# Altium schematic symbol library picoprint_library.SCHLIB: 132 symbols (part 1 of 2)
Pins are listed as number, name and electrical type; pins without a type are passive.

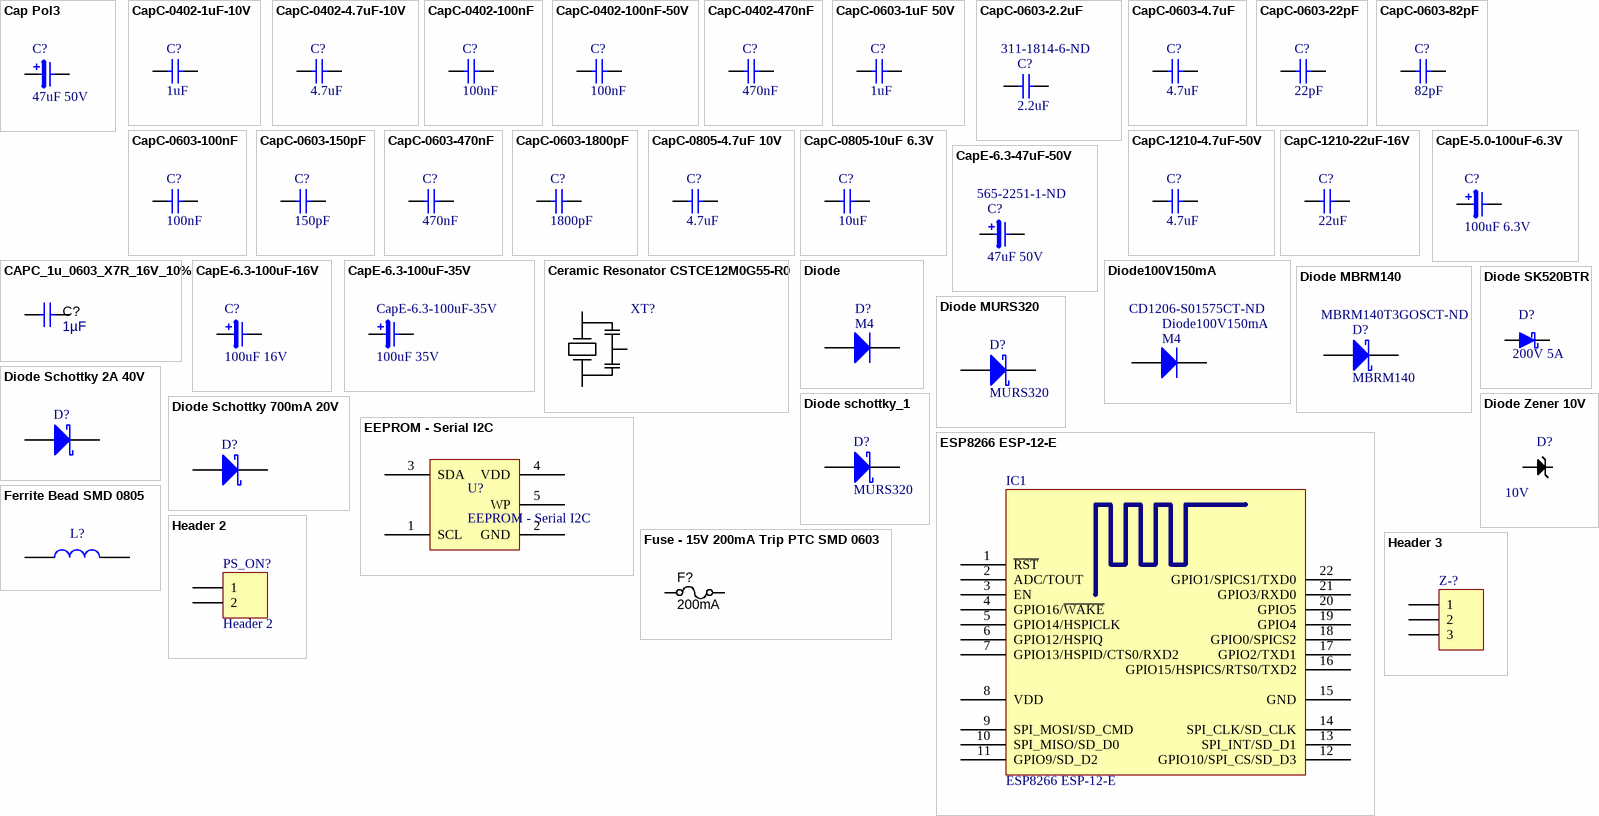
[diagram p0: symbols Cap Pol3 to Header 3]

## Cap Pol3
designator C?  value 47uF 50V  (hidden comment: Cap Pol3)
Polarized Capacitor (Surface Mount); Note: Approved sub OK; Published: 8-Jun-2000; Revision: July-2002: Re-released for DXP Platform.; Publisher: Altium Limited
footprint CC2012-0805 (Chip Capacitor; Body 2.0 x 1.2 mm (LxW typ))
simulation model CAP (Capacitor)
signal-integrity model Cap Pol
footprint CC4532-1812
footprint CC4564-1825
footprint CC5750-2220
footprint CC5664-2225
footprint CAP EL PANASONIC
pins: 1, 2

## CapC-0402-1uF-10V
designator C?  value 1uF  (hidden comment: CapC-0402-1uF-10V)
Capacitor (Semiconductor SIM Model); Voltage: 10V; Note: Approved sub OK; Published: 8-Jun-2000; Revision: July-2002: Re-released for DXP Platform.; Publisher: Altium Limited; Supplier 1: Digi-Key; Supplier Part Number 1: 1276-1448-1-ND
simulation model CAP (Semiconductor Capacitor)
signal-integrity model Cap Semi
footprint CAP 1005-0402 (Chip Capacitor, Body 1.0x0.5mm, EIA 0402, IPC Medium Density)
pins: 1, 2

## CapC-0402-4.7uF-10V
designator C?  value 4.7uF  (hidden comment: CapC-0402-4.7uF-10V)
Capacitor (Semiconductor SIM Model); Voltage: 10V; Note: Approved sub OK; Published: 8-Jun-2000; Revision: July-2002: Re-released for DXP Platform.; Publisher: Altium Limited; Supplier 1: Digi-Key; Supplier Part Number 1: 1276-1482-1-ND
simulation model CAP (Semiconductor Capacitor)
signal-integrity model Cap Semi
footprint CAP 1005-0402 (Chip Capacitor, Body 1.0x0.5mm, EIA 0402, IPC Medium Density)
pins: 1, 2

## CapC-0402-100nF
designator C?  value 100nF  (hidden comment: CapC-0402-100nF)
Capacitor (Semiconductor SIM Model); Note: Approved sub OK; Published: 8-Jun-2000; Revision: July-2002: Re-released for DXP Platform.; Publisher: Altium Limited; Supplier 1: Digi-Key; Supplier Part Number 1: 311-1336-1-ND
simulation model CAP (Semiconductor Capacitor)
signal-integrity model Cap Semi
footprint CAP 1005-0402 (Chip Capacitor, Body 1.0x0.5mm, EIA 0402, IPC Medium Density)
pins: 1, 2

## CapC-0402-100nF-50V
designator C?  value 100nF  (hidden comment: CapC-0402-100nF-50V)
Capacitor (Semiconductor SIM Model); Voltage: 50V; Note: Approved sub OK; Published: 8-Jun-2000; Revision: July-2002: Re-released for DXP Platform.; Publisher: Altium Limited; Supplier 1: Digi-Key; Supplier Part Number 1: 490-10700-1-ND
simulation model CAP (Semiconductor Capacitor)
signal-integrity model Cap Semi
footprint CAP 1005-0402 (Chip Capacitor, Body 1.0x0.5mm, EIA 0402, IPC Medium Density)
pins: 1, 2

## CapC-0402-470nF
designator C?  value 470nF  (hidden comment: CapC-0402-470nF)
Capacitor (Semiconductor SIM Model); Note: Approved sub OK; Published: 8-Jun-2000; Revision: July-2002: Re-released for DXP Platform.; Publisher: Altium Limited; Supplier 1: Digi-Key; Supplier Part Number 1: 1276-1173-1-ND
simulation model CAP (Semiconductor Capacitor)
signal-integrity model Cap Semi
footprint CAP 1005-0402 (Chip Capacitor, Body 1.0x0.5mm, EIA 0402, IPC Medium Density)
pins: 1, 2

## CapC-0603-1uF 50V
designator C?  value 1uF  (hidden comment: CapC-0603-1uF 50V)
Capacitor (Semiconductor SIM Model); Note: Approved sub OK; Published: 8-Jun-2000; Revision: July-2002: Re-released for DXP Platform.; Publisher: Altium Limited; Supplier 1: Digi-Key; Supplier Part Number 1: 1276-1860-1-ND
simulation model CAP (Semiconductor Capacitor)
signal-integrity model Cap Semi
footprint Cap 1608-0603
footprint Cap2012-0805
footprint Cap3216-1206
footprint Cap3225-1210
pins: 1, 2

## CapC-0603-2.2uF
designator C?  value 2.2uF  Supplier Part Number 1: 311-1814-6-ND  (hidden comment: CapC-0603-2.2uF)
Capacitor (Semiconductor SIM Model); Note: Approved sub OK; Published: 8-Jun-2000; Revision: July-2002: Re-released for DXP Platform.; Publisher: Altium Limited; Supplier 1: Digi-Key
simulation model CAP (Semiconductor Capacitor)
signal-integrity model Cap Semi
footprint Cap 1608-0603
footprint Cap2012-0805
footprint Cap3216-1206
footprint Cap3225-1210
pins: 1, 2

## CapC-0603-4.7uF
designator C?  value 4.7uF  (hidden comment: CapC-0603-4.7uF)
Capacitor (Semiconductor SIM Model); Note: Approved sub OK; Published: 8-Jun-2000; Revision: July-2002: Re-released for DXP Platform.; Publisher: Altium Limited; Supplier 1: Digi-Key; Supplier Part Number 1: 311-1521-1-ND
simulation model CAP (Semiconductor Capacitor)
signal-integrity model Cap Semi
footprint Cap 1608-0603
footprint Cap2012-0805
footprint Cap3216-1206
footprint Cap3225-1210
pins: 1, 2

## CapC-0603-22pF
designator C?  value 22pF  (hidden comment: CapC-0603-22pF)
Capacitor (Semiconductor SIM Model); Note: Approved sub OK; Published: 8-Jun-2000; Revision: July-2002: Re-released for DXP Platform.; Publisher: Altium Limited; Supplier 1: Digi-Key; Supplier Part Number 1: 478-6204-1-ND
simulation model CAP (Semiconductor Capacitor)
signal-integrity model Cap Semi
footprint Cap 1608-0603
footprint Cap2012-0805
footprint Cap3216-1206
footprint Cap3225-1210
pins: 1, 2

## CapC-0603-82pF
designator C?  value 82pF  (hidden comment: CapC-0603-82pF)
Capacitor (Semiconductor SIM Model); Note: Approved sub OK; Published: 8-Jun-2000; Revision: July-2002: Re-released for DXP Platform.; Publisher: Altium Limited; Supplier 1: Digi-Key; Supplier Part Number 1: 311-1068-1-ND
simulation model CAP (Semiconductor Capacitor)
signal-integrity model Cap Semi
footprint Cap 1608-0603
footprint Cap2012-0805
footprint Cap3216-1206
footprint Cap3225-1210
pins: 1, 2

## CapC-0603-100nF
designator C?  value 100nF  (hidden comment: CapC-0603-100nF)
Capacitor (Semiconductor SIM Model); Note: Approved sub OK; Published: 8-Jun-2000; Revision: July-2002: Re-released for DXP Platform.; Publisher: Altium Limited; Supplier 1: Digi-Key; Supplier Part Number 1: 311-1344-1-ND
simulation model CAP (Semiconductor Capacitor)
signal-integrity model Cap Semi
footprint Cap 1608-0603
footprint Cap2012-0805
footprint Cap3216-1206
footprint Cap3225-1210
footprint CAP 1005-0402 (Chip Capacitor, Body 1.0x0.5mm, EIA 0402, IPC Medium Density)
pins: 1, 2

## CapC-0603-150pF
designator C?  value 150pF  (hidden comment: CapC-0603-150pF)
Capacitor (Semiconductor SIM Model); Note: Approved sub OK; Published: 8-Jun-2000; Revision: July-2002: Re-released for DXP Platform.; Publisher: Altium Limited; Supplier 1: Digi-Key; Supplier Part Number 1: 311-1071-1-ND
simulation model CAP (Semiconductor Capacitor)
signal-integrity model Cap Semi
footprint Cap 1608-0603
footprint Cap2012-0805
footprint Cap3216-1206
footprint Cap3225-1210
pins: 1, 2

## CapC-0603-470nF
designator C?  value 470nF  (hidden comment: CapC-0603-470nF)
Capacitor (Semiconductor SIM Model); Note: Approved sub OK; Published: 8-Jun-2000; Revision: July-2002: Re-released for DXP Platform.; Publisher: Altium Limited; Supplier 1: Digi-Key; Supplier Part Number 1: 311-1798-1-ND
simulation model CAP (Semiconductor Capacitor)
signal-integrity model Cap Semi
footprint Cap 1608-0603
footprint Cap2012-0805
footprint Cap3216-1206
footprint Cap3225-1210
pins: 1, 2

## CapC-0603-1800pF
designator C?  value 1800pF  (hidden comment: CapC-0603-1800pF)
Capacitor (Semiconductor SIM Model); Note: Approved sub OK; Published: 8-Jun-2000; Revision: July-2002: Re-released for DXP Platform.; Publisher: Altium Limited; Supplier 1: Digi-Key; Supplier Part Number 1: 311-1769-1-ND
simulation model CAP (Semiconductor Capacitor)
signal-integrity model Cap Semi
footprint Cap 1608-0603
footprint Cap2012-0805
footprint Cap3216-1206
footprint Cap3225-1210
pins: 1, 2

## CapC-0805-4.7uF 10V
designator C?  value 4.7uF  (hidden comment: CapC-0805-4.7uF 10V)
Capacitor (Semiconductor SIM Model); Note: Approved sub OK; Published: 8-Jun-2000; Revision: July-2002: Re-released for DXP Platform.; Publisher: Altium Limited; Supplier 1: Digi-Key; Supplier Part Number 1: 1276-1244-1-ND
simulation model CAP (Semiconductor Capacitor)
signal-integrity model Cap Semi
footprint CAPC2012X135N (Chip Capacitor, Body 2.0x1.2mm, EIA 0805, IPC Medium Density)
pins: 1, 2

## CapC-0805-10uF 6.3V
designator C?  value 10uF  (hidden comment: CapC-0805-10uF 6.3V)
Capacitor (Semiconductor SIM Model); Note: Approved sub OK; Published: 8-Jun-2000; Revision: July-2002: Re-released for DXP Platform.; Publisher: Altium Limited; Supplier 1: Digi-Key; Supplier Part Number 1: 1276-6457-1-ND
simulation model CAP (Semiconductor Capacitor)
signal-integrity model Cap Semi
footprint CAPC2012X135N (Chip Capacitor, Body 2.0x1.2mm, EIA 0805, IPC Medium Density)
pins: 1, 2

## CapC-1210-4.7uF-50V
designator C?  value 4.7uF  (hidden comment: CapC-1210-4.7uF-50V)
Capacitor (Semiconductor SIM Model); Note: Approved sub OK; Published: 8-Jun-2000; Revision: July-2002: Re-released for DXP Platform.; Publisher: Altium Limited; Supplier 1: Digi-Key; Supplier Part Number 1: 490-1864-1-ND
footprint CAP 3225-1210 (Chip Capacitor, Body 3.2x2.5mm, EIA 1210, IPC Medium Density)
pins: 1, 2

## CapC-1210-22uF-16V
designator C?  value 22uF  (hidden comment: CapC-1210-22uF-16V)
Capacitor (Semiconductor SIM Model); Note: Approved sub OK; Published: 8-Jun-2000; Revision: July-2002: Re-released for DXP Platform.; Publisher: Altium Limited; Supplier 1: Digi-Key; Supplier Part Number 1: 490-5956-1-ND
footprint CAP 3225-1210 (Chip Capacitor, Body 3.2x2.5mm, EIA 1210, IPC Medium Density)
pins: 1, 2

## CAPC_1u_0603_X7R_16V_10%
designator C?, comment value 1µF  (hidden comment: approved sub OK)
Capacitor SMD Cer 1uF 10% 16V X7R 0603; Manufacturer 1: TDK Corporation; Manufacturer Part Number 1: C1608X7R1C105K; Ratings: 16V; X7R; Material: ceramic; SCDType: spec; Package / Case: 0603 (1608 metric); Tolerance: ±10%; Supplier 1: Digi-Key; Supplier Part Number 1: 445-1604-1-ND; ComponentLink1URL: http://product.tdk.com/capacitor/mlcc/en/documents/mlcc_commercial_general_en.pdf; ComponentLink1Description: http://product.tdk.com/capacitor/mlcc/en/documents/mlcc_commercial_general_en.pdf; Note: Approved sub OK
footprint CAPC1608X90N (Chip Capacitor, Body 1.6x0.8mm, 0603, IPC Medium Density)
footprint Cap 1608-0603
pins: 1, 2

## CapE-5.0-100uF-6.3V
designator C?  value 100uF 6.3V  (hidden comment: CapE-5.0-100uF-6.3V)
Polarized Capacitor (Surface Mount); Note: Approved sub OK; Published: 8-Jun-2000; Revision: July-2002: Re-released for DXP Platform.; Publisher: Altium Limited; Supplier 1: Digi-Key; Supplier Part Number 1: 565-2057-1-ND
footprint CAP EL 5mm
pins: 1, 2

## CapE-6.3-47uF-50V
designator C?  value 47uF 50V  Supplier Part Number 1: 565-2251-1-ND  (hidden comment: CapE-6.3-47uF-50V)
Polarized Capacitor (Surface Mount); Note: Approved sub OK; Published: 8-Jun-2000; Revision: July-2002: Re-released for DXP Platform.; Publisher: Altium Limited; Supplier 1: Digi-Key
footprint CC2012-0805 (Chip Capacitor; Body 2.0 x 1.2 mm (LxW typ))
simulation model CAP (Capacitor)
signal-integrity model Cap Pol
footprint CC4532-1812
footprint CC4564-1825
footprint CC5750-2220
footprint CC5664-2225
footprint CAP EL PANASONIC
pins: 1, 2

## CapE-6.3-100uF-16V
designator C?  value 100uF 16V  (hidden comment: CapE-6.3-100uF-16V)
Polarized Capacitor (Surface Mount); Note: Approved sub OK; Published: 8-Jun-2000; Revision: July-2002: Re-released for DXP Platform.; Publisher: Altium Limited; Supplier 1: Digi-Key; Supplier Part Number 1: 565-2204-1-ND
footprint CC2012-0805 (Chip Capacitor; Body 2.0 x 1.2 mm (LxW typ))
simulation model CAP (Capacitor)
signal-integrity model Cap Pol
footprint CC4532-1812
footprint CC4564-1825
footprint CC5750-2220
footprint CC5664-2225
footprint CAP EL PANASONIC
pins: 1, 2

## CapE-6.3-100uF-35V
designator CapE-6.3-100uF-35V  value 100uF 35V  (hidden comment: CapE-6.3-100uF-35V)
Polarized Capacitor (Surface Mount); Note: Approved sub OK; Published: 8-Jun-2000; Revision: July-2002: Re-released for DXP Platform.; Publisher: Altium Limited; Supplier 1: Digi-Key; Supplier Part Number 1: PCE5016CT-ND
footprint CC2012-0805 (Chip Capacitor; Body 2.0 x 1.2 mm (LxW typ))
simulation model CAP (Capacitor)
signal-integrity model Cap Pol
footprint CC4532-1812
footprint CC4564-1825
footprint CC5750-2220
footprint CC5664-2225
footprint CAP EL PANASONIC
pins: 1, 2

## Ceramic Resonator CSTCE12M0G55-R0
designator XT?  (value not drawn)
Ceramic Resonator; Supplier 1: Digi-Key; Supplier Part Number 1: 490-1197-1-ND
footprint CERALOCK CSTCE_G
pins: 1 IN, 2 GND, 3 OUT

## Diode
designator D?, comment M4
Default Diode; Code - JEDEC: DO-214-AB; Published: 8-Jun-2000; Revision: July-2002: Re-released for DXP Platform.; Publisher: Altium Limited; Supplier 1: Digi-Key; Supplier Part Number 1: S1GFSCT-ND
footprint DSO-C2/X3.3 (DO-214-AB/SMC; 2 C-Bend Leads; Body 7.9 x 5.9 mm, inc. leads (LxW))
simulation model DIODE (Diode)
signal-integrity model Diode
footprint DIODA10M
footprint 1N4148 SMD (MELF Diode, 2-Leads, Body 3.5x1.7mm, IPC Medium Density)
footprint Diode SMB
footprint 1n4007 SMD
pins: 1 A, 2 K

## Diode100V150mA
designator Diode100V150mA, comment M4  Supplier Part Number 1: CD1206-S01575CT-ND
Default Diode; Code - JEDEC: DO-214-AB; Published: 8-Jun-2000; Revision: July-2002: Re-released for DXP Platform.; Publisher: Altium Limited; Supplier 1: Digi-Key
footprint DSO-C2/X3.3 (DO-214-AB/SMC; 2 C-Bend Leads; Body 7.9 x 5.9 mm, inc. leads (LxW))
simulation model DIODE (Diode)
signal-integrity model Diode
footprint DIODA10M
footprint 1N4148 SMD (MELF Diode, 2-Leads, Body 3.5x1.7mm, IPC Medium Density)
footprint Diode SMB
footprint 1n4007 SMD
pins: 1 A, 2 K

## Diode MBRM140
designator D?  value MBRM140  Supplier Part Number 1: MBRM140T3GOSCT-ND  (hidden comment: Diode MBRM140)
Default Diode; Code - JEDEC: DO-214-AB; Published: 8-Jun-2000; Revision: July-2002: Re-released for DXP Platform.; Publisher: Altium Limited; Supplier 1: Digi-Key
simulation model DIODE (Diode)
signal-integrity model Diode
footprint DIODA10M
footprint US1J
footprint MBRM140
pins: 1 A, 2 K

## Diode MURS320
designator D?  value MURS320  (hidden comment: Diode MURS320)
Default Diode; Code - JEDEC: DO-214-AB; Published: 8-Jun-2000; Revision: July-2002: Re-released for DXP Platform.; Publisher: Altium Limited; Supplier 1: Digi-Key; Supplier Part Number 1: MURS320-13FDICT-ND
simulation model DIODE (Diode)
signal-integrity model Diode
footprint DIODA10M
footprint US1J
footprint MBRM140
pins: 1 A, 2 K

## Diode Schottky 2A 40V
designator D?  (value not drawn)
Default Diode; Code - JEDEC: DO-214-AB; Note: Approved sub OK; Published: 8-Jun-2000; Revision: July-2002: Re-released for DXP Platform.; Publisher: Altium Limited; Supplier 1: Digi-Key; Supplier Part Number 1: DB2W40200LCT-ND
simulation model DIODE (Diode)
signal-integrity model Diode
footprint DIOM2616X08N (Molded Diode, 2-Leads, Body 2.60x1.60mm, IPC Medium Density)
pins: A, K

## Diode Schottky 700mA 20V
designator D?  (value not drawn)
Default Diode; Note: Approved sub OK; Revision: July-2002: Re-released for DXP Platform.; Supplier 1: Digi-Key; Supplier Part Number 1: DB3J208K0LCT-ND
simulation model DIODE (Diode)
signal-integrity model Diode
footprint SC-85 (SMini3-F2-B)
pins: 1 A, 3 K

## Diode schottky_1
designator D?, comment MURS320
Default Diode; Code - JEDEC: DO-214-AB; Published: 8-Jun-2000; Revision: July-2002: Re-released for DXP Platform.; Publisher: Altium Limited
simulation model DIODE (Diode)
signal-integrity model Diode
footprint DIODA10M
footprint MURS320 (Molded Diode, 2-Leads, Body 6.8x5.8mm, IPC Medium Density)
footprint MBRM140
pins: 1 A, 2 K

## Diode SK520BTR
designator D?  value 200V 5A  (hidden comment: Diode SK520BTR)
Default Diode; Code - JEDEC: DO-214-AB; Published: 8-Jun-2000; Revision: July-2002: Re-released for DXP Platform.; Publisher: Altium Limited; Supplier 1: Digi-Key; Supplier Part Number 1: 1655-1602-1-ND
footprint DO-214AA (JEDEC DO214 variation AA. SMB)
pins: A, K

## Diode Zener 10V
designator D?  Voltage: 10V  (hidden comment: Diode Zener 10V)
Default Diode; Code - JEDEC: DO-214-AB; Note: Approved sub OK; Published: 8-Jun-2000; Revision: July-2002: Re-released for DXP Platform.; Publisher: Altium Limited; Supplier 1: Digi-Key; Supplier Part Number 1: DZ2S100M0LCT-ND
simulation model DIODE (Diode)
signal-integrity model Diode
footprint SOD523 (SOD-523; 2 Leads; Body 1.2 x 0.8 mm, (LxW))
pins: A, K

## EEPROM - Serial I2C
designator U?
Supplier 1: Digi-Key; Supplier Part Number 1: 24LC16BT-I/OTCT-ND
footprint SOT23-5
pins: 1 SCL, 2 GND, 3 SDA, 4 VDD, 5 WP

## ESP8266 ESP-12-E
designator IC1
footprint ESP8266 ESP-12-E-SMD (ESP8266 ESP-12-E)
pins: 1 ~{RST} "Reset", 2 ADC/TOUT "ADC Input Or TOUT Output", 3 EN "Chip enable", 4 GPIO16/~{WAKE} "GPIO16 or Deep-Sleep Wakeup", 5 GPIO14/HSPICLK "GPIO14 or SPI CLK", 6 GPIO12/HSPIQ "GPIO12 or SPIQ", 7 GPIO13/HSPID/CTS0/RXD2 "GPIO13 or SPID", 8 VDD "Power supply", 9 SPI_MOSI/SD_CMD "GPIO14 or SPI CLK", 10 SPI_MISO/SD_D0 "GPIO12 or SPIQ", 11 GPIO9/SD_D2 "GPIO13 or SPID", 12 GPIO10/SPI_CS/SD_D3 "GPIO15 or SPICS", 13 SPI_INT/SD_D1 "GPIO2 or TX", 14 SPI_CLK/SD_CLK "GPIO0 or SPICS2", 15 GND "Power ground", 16 GPIO15/HSPICS/RTS0/TXD2 "GPIO15 or SPICS", 17 GPIO2/TXD1 "GPIO2 or TX", 18 GPIO0/SPICS2 "GPIO0 or SPICS2", 19 GPIO4 "GPIO5", 20 GPIO5 "GPIO4", 21 GPIO3/RXD0 "GPIO3 or UART RXD", 22 GPIO1/SPICS1/TXD0 "GPIO1 or UART TXD"

## Ferrite Bead SMD 0805
designator L?  (value not drawn)
MagneticCore Inductor with Winding Polarity Marking; Value: WE-CBF_0805 (WE-CBF); Note: Approved sub OK; Published: 24-Mar-1999; Revision: July-2002: Re-released for DXP Platform.; Publisher: Altium Limited; Supplier 1: Digi-Key; Supplier Part Number 1: 490-1054-1-ND
footprint 0603 Chip Ferrite Bead (Chip Ferrite Bead, 2-Leads, Body 1.6x0.8mm, IPC Medium Density)
signal-integrity model Inductor Iron Dot
footprint res 2518-1007 (Chip Inductor, 2-Leads, Body 2.5x1.8mm, IPC Medium Density)
footprint Res 2012-0805
pins: 1, 2

## Fuse - 15V 200mA Trip PTC SMD 0603
designator F?, comment value 200mA  (hidden comment: PTC Resettable Fuse)
Fuse - 15V 200mA Trip PTC SMD 0603; Manufacturer 1: Holly Fuse; Manufacturer Part Number 1: 06T-0160L; Ratings: 160mA; 63VDC; slow-blow; SCDType: spec; Package / Case: 0603 (1608 metric); Supplier 1: Digi-Key; Supplier Part Number 1: 507-1821-1-ND
footprint PTC Fuse1608-0603
pins: 1, 2

## Header 2
designator PS_ON?
Header, 2-Pin; Note: Approved sub OK; LatestRevisionDate: 17-Jul-2002; LatestRevisionNote: Re-released for DXP Platform.; Publisher: Altium Limited; Supplier 1: Digi-Key; Supplier Part Number 1: 3M9447-ND
signal-integrity model Connector
footprint HDR1X2-HEADER
footprint HEADER-1x2-50mil
pins: 1, 2

## Header 3
designator Z-?  (value not drawn)
Header, 3-Pin; Note: Approved sub OK; LatestRevisionDate: 17-Jul-2002; LatestRevisionNote: Re-released for DXP Platform.; Publisher: Altium Limited; Supplier 1: Digi-Key; Supplier Part Number 1: 3M9448-ND
signal-integrity model Connector
footprint HDR1X3-HEADER
pins: 1, 2, 3

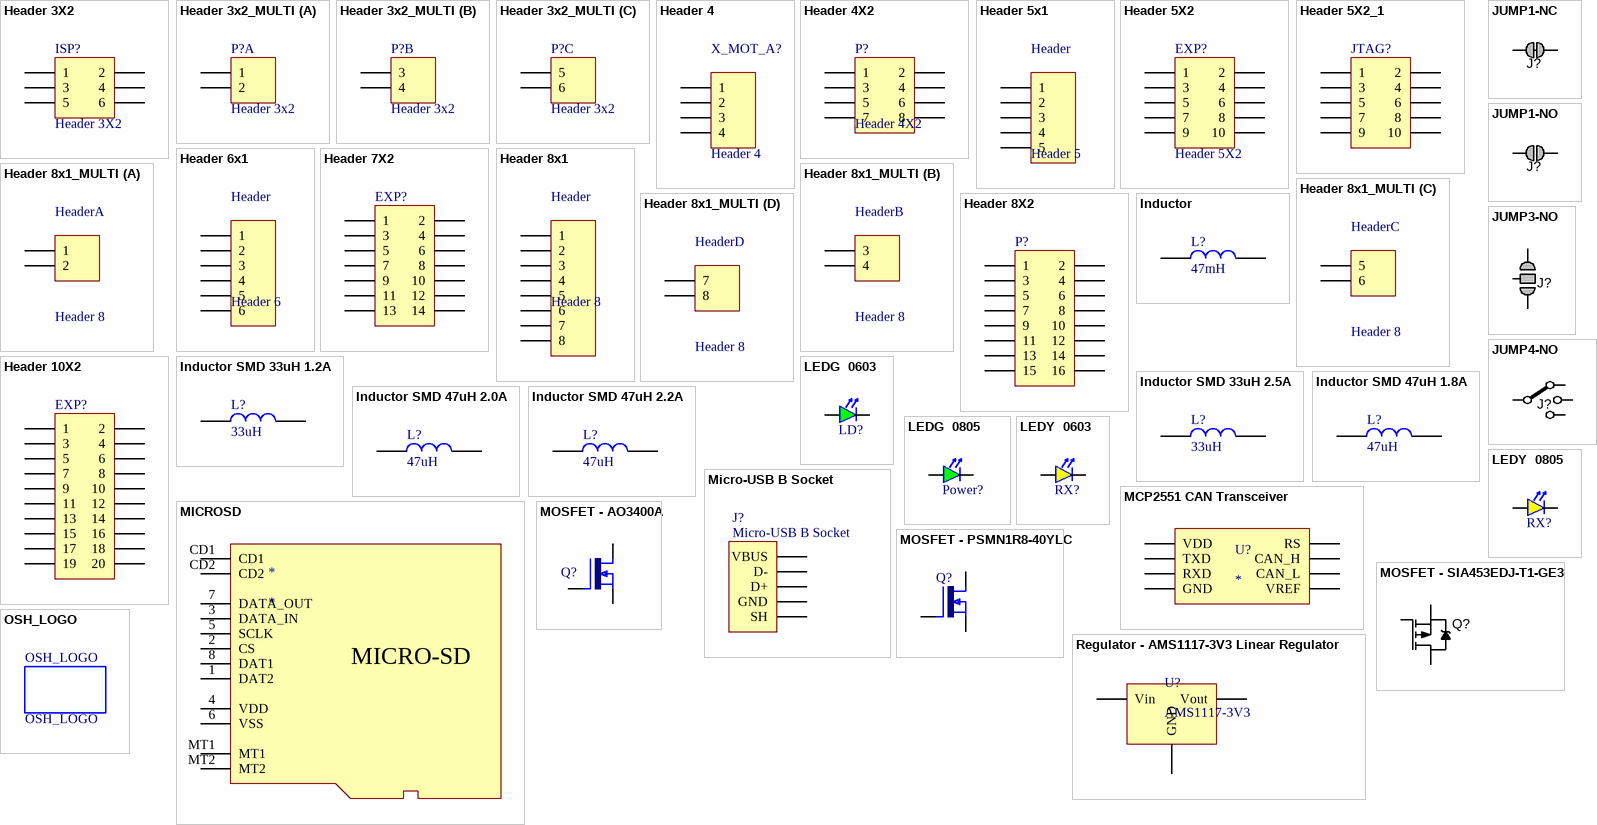
[diagram p1: symbols Header 3X2 to Regulator - AMS1117-3V3 Linear Regulator]

## Header 3X2
designator ISP?
Header, 3-Pin, Dual row; Note: Approved sub OK; LatestRevisionDate: 17-Jul-2002; LatestRevisionNote: Re-released for DXP Platform.; Publisher: Altium Limited; Supplier 1: Digi-Key; Supplier Part Number 1: 3M9459-ND
signal-integrity model Connector
footprint HDR2X3-Header
pins: 1, 2, 3, 4, 5, 6

## Header 3x2_MULTI
designator P?, comment Header 3x2
Header, 6-Pin; Note: Approved sub OK; LatestRevisionDate: 17-Jul-2002; LatestRevisionNote: Re-released for DXP Platform.; Publisher: Altium Limited; Supplier 1: Digi-Key; Supplier Part Number 1: 3M9459-ND
signal-integrity model Connector
footprint HDR2X3-Header
part A pins: 1, 2
part B pins: 3, 4
part C pins: 5, 6

## Header 4
designator X_MOT_A?
Header, 4-Pin; Note: Approved sub OK; LatestRevisionDate: 17-Jul-2002; LatestRevisionNote: Re-released for DXP Platform.; Publisher: Altium Limited; Supplier 1: Digi-Key; Supplier Part Number 1: 3M9449-ND
signal-integrity model Connector
footprint HDR1X4-HEADER
pins: 1, 2, 3, 4

## Header 4X2
designator P?
Header, 4-Pin, Dual row; Note: Approved sub OK; LatestRevisionDate: 17-Jul-2002; LatestRevisionNote: Re-released for DXP Platform.; Publisher: Altium Limited; Supplier 1: Digi-Key; Supplier Part Number 1: 961208-6404-AR-ND
signal-integrity model Connector
footprint HDR2X4-HEADER
pins: 1, 2, 3, 4, 5, 6, 7, 8

## Header 5x1
designator Header, comment Header 5
Header, 5-Pin; Note: Approved sub OK; LatestRevisionDate: 17-Jul-2002; LatestRevisionNote: Re-released for DXP Platform.; Publisher: Altium Limited; Supplier 1: Digi-Key; Supplier Part Number 1: 3M9449-ND
signal-integrity model Connector
footprint HDR1X5-HEADER
pins: 1, 2, 3, 4, 5

## Header 5X2
designator EXP?
Header, 5-Pin, Dual row; Note: Approved sub OK; LatestRevisionDate: 17-Jul-2002; LatestRevisionNote: Re-released for DXP Platform.; Publisher: Altium Limited; Supplier 1: Digi-Key; Supplier Part Number 1: 3M9460-ND
footprint HDR2X5 (Connector; Header; 5x2 Position)
signal-integrity model Connector
footprint HDR2X5_exp (Connector; Header; 5x2 Position)
footprint HDR2X5_exp Iner only\ (Connector; Header; 5x2 Position)
pins: 1, 2, 3, 4, 5, 6, 7, 8, 9, 10

## Header 5X2_1
designator JTAG?  (value not drawn)
Header, 5-Pin, Dual row; Note: Approved sub OK; LatestRevisionDate: 17-Jul-2002; LatestRevisionNote: Re-released for DXP Platform.; Publisher: Altium Limited; Supplier 1: Digi-Key; Supplier Part Number 1: 3M9460-ND
footprint HDR2X5 (Connector; Header; 5x2 Position)
signal-integrity model Connector
pins: 1, 2, 3, 4, 5, 6, 7, 8, 9, 10

## Header 6x1
designator Header, comment Header 6
Header, 6-Pin; Note: Approved sub OK; LatestRevisionDate: 17-Jul-2002; LatestRevisionNote: Re-released for DXP Platform.; Publisher: Altium Limited; Supplier 1: Digi-Key; Supplier Part Number 1: 3M9449-ND
signal-integrity model Connector
footprint HDR1X6-HEADER
pins: 1, 2, 3, 4, 5, 6

## Header 7X2
designator EXP?  (value not drawn)
Header, 7-Pin, Dual row; Note: Approved sub OK; LatestRevisionDate: 17-Jul-2002; LatestRevisionNote: Re-released for DXP Platform.; Publisher: Altium Limited; Supplier 1: Digi-Key; Supplier Part Number 1: 3M15450-ND
footprint HDR2X7 (Connector; Header; 7x2 Position)
signal-integrity model Connector
pins: 1, 2, 3, 4, 5, 6, 7, 8, 9, 10, 11, 12, 13, 14

## Header 8x1
designator Header, comment Header 8
Header, 8-Pin; Note: Approved sub OK; LatestRevisionDate: 17-Jul-2002; LatestRevisionNote: Re-released for DXP Platform.; Publisher: Altium Limited; Supplier 1: Digi-Key; Supplier Part Number 1: 3M9449-ND
signal-integrity model Connector
footprint HDR1X8-HEADER
pins: 1, 2, 3, 4, 5, 6, 7, 8

## Header 8x1_MULTI
designator Header, comment Header 8
Header, 8-Pin; Note: Approved sub OK; LatestRevisionDate: 17-Jul-2002; LatestRevisionNote: Re-released for DXP Platform.; Publisher: Altium Limited; Supplier 1: Digi-Key; Supplier Part Number 1: 3M9449-ND
signal-integrity model Connector
footprint HDR1X8-HEADER
part A pins: 1, 2
part B pins: 3, 4
part C pins: 5, 6
part D pins: 7, 8

## Header 8X2
designator P?  (value not drawn)
Header, 10-Pin, Dual row; Note: Approved sub OK; LatestRevisionDate: 17-Jul-2002; LatestRevisionNote: Re-released for DXP Platform.; Publisher: Altium Limited
signal-integrity model Connector
footprint HDR2X8-HEADER
pins: 1, 2, 3, 4, 5, 6, 7, 8, 9, 10, 11, 12, 13, 14, 15, 16

## Header 10X2
designator EXP?  (value not drawn)
Header, 10-Pin, Dual row; Note: Approved sub OK; LatestRevisionDate: 17-Jul-2002; LatestRevisionNote: Re-released for DXP Platform.; Publisher: Altium Limited; Supplier 1: Digi-Key; Supplier Part Number 1: 3M155864-ND
signal-integrity model Connector
footprint HDR2X10-HEADER
pins: 1, 2, 3, 4, 5, 6, 7, 8, 9, 10, 11, 12, 13, 14, 15, 16, 17, 18, 19, 20

## Inductor
designator L?  value 47mH  (hidden comment: Inductor)
MagneticCore Inductor with Winding Polarity Marking; Published: 24-Mar-1999; Revision: July-2002: Re-released for DXP Platform.; Publisher: Altium Limited
footprint 0603 Chip Ferrite Bead (Chip Ferrite Bead, 2-Leads, Body 1.6x0.8mm, IPC Medium Density)
signal-integrity model Inductor Iron Dot
footprint DO3316P (SMT Power Inductors)
footprint inductor_mss6122d
pins: 1, 2

## Inductor SMD 33uH 1.2A
designator L?  value 33uH  (hidden comment: Inductor SMD 33uH 1.2A)
MagneticCore Inductor with Winding Polarity Marking; Published: 24-Mar-1999; Revision: July-2002: Re-released for DXP Platform.; Publisher: Altium Limited; Supplier 1: Farnell; Supplier Part Number 1: 2288635
footprint 0603 Chip Ferrite Bead (Chip Ferrite Bead, 2-Leads, Body 1.6x0.8mm, IPC Medium Density)
signal-integrity model Inductor Iron Dot
footprint res 2518-1007 (Chip Inductor, 2-Leads, Body 2.5x1.8mm, IPC Medium Density)
footprint inductor_mss6122d
footprint DO3316P
pins: 1, 2

## Inductor SMD 33uH 2.5A
designator L?  value 33uH  (hidden comment: Inductor SMD 33uH 2.5A)
MagneticCore Inductor with Winding Polarity Marking; Published: 24-Mar-1999; Revision: July-2002: Re-released for DXP Platform.; Publisher: Altium Limited; Supplier 1: Digi-Key; Supplier Part Number 1: SRN6045TA-330MCT-ND
footprint SRN6045TA SMD Inductor
pins: 1, 2

## Inductor SMD 47uH 1.8A
designator L?  value 47uH  (hidden comment: Inductor SMD 47uH 1.8A)
MagneticCore Inductor with Winding Polarity Marking; Published: 24-Mar-1999; Revision: July-2002: Re-released for DXP Platform.; Publisher: Altium Limited; Supplier 1: Farnell; Supplier Part Number 1: 2287252
footprint 0603 Chip Ferrite Bead (Chip Ferrite Bead, 2-Leads, Body 1.6x0.8mm, IPC Medium Density)
signal-integrity model Inductor Iron Dot
footprint res 2518-1007 (Chip Inductor, 2-Leads, Body 2.5x1.8mm, IPC Medium Density)
footprint inductor_mss6122d
footprint DO3316P
pins: 1, 2

## Inductor SMD 47uH 2.0A
designator L?  value 47uH  (hidden comment: Inductor SMD 47uH 2.0A)
MagneticCore Inductor with Winding Polarity Marking; Published: 24-Mar-1999; Revision: July-2002: Re-released for DXP Platform.; Publisher: Altium Limited; Supplier 1: Digi-Key; Supplier Part Number 1: SRN6045TA-470MCT-ND
footprint SRN6045TA SMD Inductor
pins: 1, 2

## Inductor SMD 47uH 2.2A
designator L?  value 47uH  (hidden comment: Inductor SMD 47uH 2.2A)
MagneticCore Inductor with Winding Polarity Marking; Published: 24-Mar-1999; Revision: July-2002: Re-released for DXP Platform.; Publisher: Altium Limited; Supplier 1: Digi-Key; Supplier Part Number 1: SRN8040TA-470MCT-ND
footprint SRN8040TA SMD Inductor
pins: 1, 2

## JUMP1-NC
designator J?, comment Jumper  (value not drawn)  (no BOM)
SMD jumper
footprint JUMPER-2-NC_BY_PASTE
footprint JUMPER-2-NC_BY_TRACE
pins: 1, 2

## JUMP1-NO
designator J?, comment Jumper  (value not drawn)  (no BOM)
SMD jumper
footprint JUMPER-2-NO
pins: 1, 2

## JUMP3-NO
designator J?, comment Jumper  (value not drawn)  (no BOM)
SMD jumper
footprint JUMPER-3-NO
footprint JUMPER-3-NO-BIG
pins: 1, 2, 3

## JUMP4-NO
designator J?, comment Jumper  (value not drawn)  (no BOM)
SMD jumper
footprint JUMPER-4-NO
pins: 1, 2, 3, 4

## LEDG  0603
designator LD?, comment GREEN  (value not drawn)
Hyper-Bright LED; Note: Approved sub OK; Supplier 1: Digi-Key; Supplier Part Number 1: 160-1435-2-ND
footprint LED 0805
footprint LED 1608-0603
pins: 1 A, 2 K

## LEDG  0805
designator Power?, comment GREEN  (value not drawn)
Hyper-Bright Low Current LED OSRAM; Note: Approved sub OK; Supplier 1: Digi-Key; Supplier Part Number 1: 475-1410-1-ND
footprint LED 0805
pins: 1 A, 2 K

## LEDY  0603
designator RX?, comment YELLOW  (value not drawn)
Hyper-Bright LED; Note: Approved sub OK; Supplier 1: Digi-Key; Supplier Part Number 1: 160-1437-1-ND
footprint LED 1608-0603
pins: 1 A, 2 K

## LEDY  0805
designator RX?, comment YELLOW  (value not drawn)
Hyper-Bright Low Current LED OSRAM; Note: Approved sub OK; Supplier 1: Digi-Key; Supplier Part Number 1: 475-2560-1-ND
footprint LED 0805
pins: 1 A, 2 K

## MCP2551 CAN Transceiver
designator U?
Supplier 1: Digi-Key; Supplier Part Number 1: MCP2551-I/SN-ND
footprint SOIC127P600X175-8M (SOIC, 8-Leads, Body 4.90x3.90mm, Pitch 1.27mm, IPC Low Density)
pins: 1 TXD, 2 GND, 3 VDD, 4 RXD, 5 VREF, 6 CAN_L, 7 CAN_H, 8 RS

## Micro-USB B Socket
designator J?
Note: Approved sub OK; Supplier 1: Digi-Key; Supplier Part Number 1: WM1399CT-ND
footprint Micro-USB B Molex 105017-0001
pins: D+, D-, GND, SHIELD SH, VBUS

## MICROSD
designator *
MicroSD Card Socket; Note: Approved sub OK; Supplier 1: Digi-Key; Supplier Part Number 1: 101-00660-68-6-1-ND
footprint MICRO-SD
pins: 1 DAT2, 2 CS, 3 DATA_IN, 4 VDD, 5 SCLK, 6 VSS, 7 DATA_OUT, 8 DAT1, CD1, CD2, MT1, MT2
text: MICRO-SD

## MOSFET - AO3400A
designator Q?  (value not drawn)
N-CH MOSFET 30V 5.7A SOT23; Supplier 1: Digi-Key; Supplier Part Number 1: 785-1000-1-ND
footprint SOT23-3 New (SOT23, 3 pin)
pins: 1 G, 2 S, 3 D

## MOSFET - PSMN1R8-40YLC
designator Q?, comment PSMN1R8-40YLC  (value not drawn)
N-CH MOSFET 40V 100A LFPAK; Supplier 1: Digi-Key; Supplier Part Number 1: 568-10156-1-ND
footprint TO220BV (Molded Package)
footprint LFPACK
pins: 1 G, 2 D, 3 S

## MOSFET - SIA453EDJ-T1-GE3
designator Q?, comment SIA453EDJ-T1-GE3  (value not drawn)
MOSFET SMD P-CH 30V 24A PowerPAK SC-70-6; Manufacturer 1: Fairchild Semiconductor; Manufacturer Part Number 1: BSS84; FET Type: MOSFET P-Channel, Metal Oxide; FET Feature: Logic Level Gate; Drain to Source Voltage (Vdss): 50V; Current - Continuous Drain (Id) @ 25° C: 130mA; Gate Charge (Qg) @ Vgs: 1.3nC @ 5V; Input Capacitance (Ciss) @ Vds: 73pF @ 25V; ComponentLink1URL: http://www.fairchildsemi.com/ds/BS/BSS84.pdf; ComponentLink1Description: http://www.fairchildsemi.com/ds/BS/BSS84.pdf; Supplier 1: Digi-Key; Supplier Part Number 1: SIA453EDJ-T1-GE3CT-ND
footprint PowerPAK SC-70
pins: 1 D, 3 G, 4 S

## OSH_LOGO
designator OSH_LOGO  (no BOM)
footprint OS LOGO TOP

## Regulator - AMS1117-3V3 Linear Regulator
designator U?, comment AMS1117-3V3
Supplier 1: Digi-Key; Supplier Part Number 1: AZ1117EH-3.3TRG1DICT-ND
footprint SOT229P700X180-4N (SOT223, 4-Leads, Body 6.50x7.00mm (avg), Pitch 2.29mm, IPC Medium Density)
pins: GND, Vin, Vout

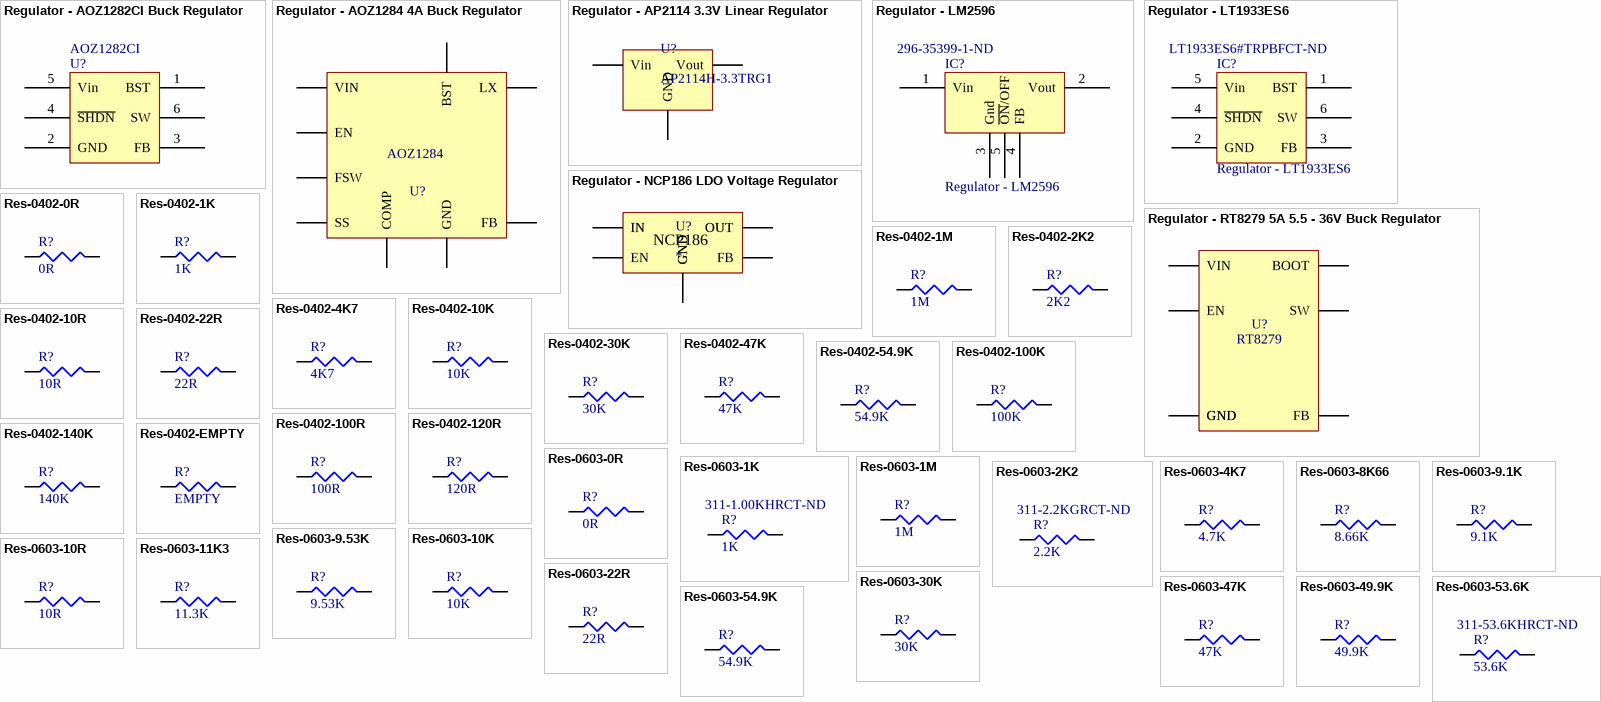
[diagram p2: symbols Regulator - AOZ1282CI Buck Regulator to Res-0603-54.9K]

## Regulator - AOZ1282CI Buck Regulator
designator U?, comment AOZ1282CI
Buck Regulator; Supplier 1: Digi-Key; Supplier Part Number 1: 785-1613-1-ND
footprint SOT23-6N
pins: 1 BST, 2 GND, 3 FB, 4 ~{SHDN}, 5 Vin, 6 SW

## Regulator - AOZ1284 4A Buck Regulator
designator U?, comment AOZ1284  (value not drawn)
Supplier 1: Digi-Key; Supplier Part Number 1: 785-1689-1-ND
pins: 1 LX, 2 BST, 3 GND, 4 FSW, 5 COMP, 6 FB, 7 SS, 8 EN, 9 VIN

## Regulator - AP2114 3.3V Linear Regulator
designator U?, comment AP2114H-3.3TRG1
3.3V LDO Regulator; Supplier 1: Digi-Key; Supplier Part Number 1: AP2114H-3.3TRG1DICT-ND
footprint SOT229P700X180-4N (SOT223, 4-Leads, Body 6.50x7.00mm (avg), Pitch 2.29mm, IPC Medium Density)
pins: GND, Vin, Vout

## Regulator - LM2596
designator IC?  Supplier Part Number 1: 296-35399-1-ND
3.0 A, Step-Down Switching  Regulator; Supplier 1: Digi-Key
footprint TO-263 (D2-PAK, 6-Pads, Body 10.4x8.9mm (max), IPC Medium Density)
pins: 1 Vin, 2 Vout, 3 Gnd, 4 FB, 5 ~{ON}/OFF, 6 HS hidden to GND

## Regulator - LT1933ES6
designator IC?  Supplier Part Number 1: LT1933ES6#TRPBFCT-ND
600mA, 500kHz Step-Down  Switching Regulator in  SOT-23; Supplier 1: Digi-Key
footprint SOT23-6N (SOT23, 6-Leads, Body 3.0x3.0mm (max), Pitch 0.95mm, IPC Medium Density)
pins: 1 BST, 2 GND, 3 FB, 4 ~{SHDN}, 5 Vin, 6 SW

## Regulator - NCP186 LDO Voltage Regulator
designator U?
Supplier 1: Digi-Key; Supplier Part Number 1: NCP186AMX330TAGOSCT-ND
footprint XDFN8
pins: 1 OUT, 2 OUT, 3 GND, 4 FB, 5 GND, 6 EN, 7 IN, 8 IN, 9 GND
text: NCP186

## Regulator - RT8279 5A 5.5 - 36V Buck Regulator
designator U?, comment RT8279  (value not drawn)
Supplier 1: Digi-Key; Supplier Part Number 1: 1028-1423-1-ND
footprint SOP127P600X175_HS-9N (SOP, 8-Leads, Body 4.90x3.91mm, Pitch 1.27mm, Thermal Pad 3.50x2.50mm, IPC Medium Density)
pins: 1 BOOT, 2 GND, 3 GND, 4 FB, 6 GND, 7 VIN, 8 EN, 8 SW, 9 GND

## Res-0402-0R
designator R?  value 0R  (hidden comment: Res-0402-0R)
Resistor; Note: Approved sub OK; Published: 8-Jun-2000; Revision: July-2002: Re-released for DXP Platform.; Publisher: Altium Limited; Supplier 1: Digi-Key; Supplier Part Number 1: 311-0.0JRCT-ND
simulation model RESISTOR (Resistor)
signal-integrity model Res
footprint RESC1005X40N (Chip Resistor, Body 1.0x0.5mm, EIA 0402, IPC Medium Density)
pins: 1, 2
1 alternate drawing of the same symbol

## Res-0402-1K
designator R?  value 1K  (hidden comment: Res-0402-1K)
Resistor; Note: Approved sub OK; Published: 8-Jun-2000; Revision: July-2002: Re-released for DXP Platform.; Publisher: Altium Limited; Supplier 1: Digi-Key; Supplier Part Number 1: 311-1.0KJRCT-ND
simulation model RESISTOR (Resistor)
signal-integrity model Res
footprint RESC1005X40N (Chip Resistor, Body 1.0x0.5mm, EIA 0402, IPC Medium Density)
pins: 1, 2
1 alternate drawing of the same symbol

## Res-0402-1M
designator R?  value 1M  (hidden comment: Res-0402-1M)
Resistor; Note: Approved sub OK; Published: 8-Jun-2000; Revision: July-2002: Re-released for DXP Platform.; Publisher: Altium Limited; Supplier 1: Digi-Key; Supplier Part Number 1: 311-1.0MJRCT-ND
simulation model RESISTOR (Resistor)
signal-integrity model Res
footprint RESC1005X40N (Chip Resistor, Body 1.0x0.5mm, EIA 0402, IPC Medium Density)
pins: 1, 2
1 alternate drawing of the same symbol

## Res-0402-2K2
designator R?  value 2K2  (hidden comment: Res-0402-2K2)
Resistor; Note: Approved sub OK; Published: 8-Jun-2000; Revision: July-2002: Re-released for DXP Platform.; Publisher: Altium Limited; Supplier 1: Digi-Key; Supplier Part Number 1: 311-2.2KJRCT-ND
simulation model RESISTOR (Resistor)
signal-integrity model Res
footprint RESC1005X40N (Chip Resistor, Body 1.0x0.5mm, EIA 0402, IPC Medium Density)
pins: 1, 2
1 alternate drawing of the same symbol

## Res-0402-4K7
designator R?  value 4K7  (hidden comment: Res-0402-4K7)
Resistor; Note: Approved sub OK; Published: 8-Jun-2000; Revision: July-2002: Re-released for DXP Platform.; Publisher: Altium Limited; Supplier 1: Digi-Key; Supplier Part Number 1: 311-4.7KJRCT-ND
simulation model RESISTOR (Resistor)
signal-integrity model Res
footprint RESC1005X40N (Chip Resistor, Body 1.0x0.5mm, EIA 0402, IPC Medium Density)
pins: 1, 2
1 alternate drawing of the same symbol

## Res-0402-10K
designator R?  value 10K  (hidden comment: Res-0402-10K)
Resistor; Note: Approved sub OK; Published: 8-Jun-2000; Revision: July-2002: Re-released for DXP Platform.; Publisher: Altium Limited; Supplier 1: Digi-Key; Supplier Part Number 1: 311-10KJRCT-ND
simulation model RESISTOR (Resistor)
signal-integrity model Res
footprint RESC1005X40N (Chip Resistor, Body 1.0x0.5mm, EIA 0402, IPC Medium Density)
pins: 1, 2
1 alternate drawing of the same symbol

## Res-0402-10R
designator R?  value 10R  (hidden comment: Res-0402-10R)
Resistor; Note: Approved sub OK; Published: 8-Jun-2000; Revision: July-2002: Re-released for DXP Platform.; Publisher: Altium Limited; Supplier 1: Digi-Key; Supplier Part Number 1: 311-10JRCT-ND
simulation model RESISTOR (Resistor)
signal-integrity model Res
footprint RESC1005X40N (Chip Resistor, Body 1.0x0.5mm, EIA 0402, IPC Medium Density)
pins: 1, 2
1 alternate drawing of the same symbol

## Res-0402-22R
designator R?  value 22R  (hidden comment: Res-0402-22R)
Resistor; Note: Approved sub OK; Published: 8-Jun-2000; Revision: July-2002: Re-released for DXP Platform.; Publisher: Altium Limited; Supplier 1: Digi-Key; Supplier Part Number 1: 311-22JRCT-ND
simulation model RESISTOR (Resistor)
signal-integrity model Res
footprint RESC1005X40N (Chip Resistor, Body 1.0x0.5mm, EIA 0402, IPC Medium Density)
pins: 1, 2
1 alternate drawing of the same symbol

## Res-0402-30K
designator R?  value 30K  (hidden comment: Res-0402-30K)
Resistor; Note: Approved sub OK; Published: 8-Jun-2000; Revision: July-2002: Re-released for DXP Platform.; Publisher: Altium Limited; Supplier 1: Digi-Key; Supplier Part Number 1: 311-30KJRCT-ND
simulation model RESISTOR (Resistor)
signal-integrity model Res
footprint RESC1005X40N (Chip Resistor, Body 1.0x0.5mm, EIA 0402, IPC Medium Density)
pins: 1, 2
1 alternate drawing of the same symbol

## Res-0402-47K
designator R?  value 47K  (hidden comment: Res-0402-47K)
Resistor; Note: Approved sub OK; Published: 8-Jun-2000; Revision: July-2002: Re-released for DXP Platform.; Publisher: Altium Limited; Supplier 1: Digi-Key; Supplier Part Number 1: 311-47KJRCT-ND
simulation model RESISTOR (Resistor)
signal-integrity model Res
footprint RESC1005X40N (Chip Resistor, Body 1.0x0.5mm, EIA 0402, IPC Medium Density)
pins: 1, 2
1 alternate drawing of the same symbol

## Res-0402-54.9K
designator R?  value 54.9K  (hidden comment: Res-0402-54.9K)
Resistor; Note: Approved sub OK; Published: 8-Jun-2000; Revision: July-2002: Re-released for DXP Platform.; Publisher: Altium Limited; Supplier 1: Digi-Key; Supplier Part Number 1: YAG3185CT-ND
simulation model RESISTOR (Resistor)
signal-integrity model Res
footprint RESC1005X40N (Chip Resistor, Body 1.0x0.5mm, EIA 0402, IPC Medium Density)
pins: 1, 2
1 alternate drawing of the same symbol

## Res-0402-100K
designator R?  value 100K  (hidden comment: Res-0402-100K)
Resistor; Note: Approved sub OK; Published: 8-Jun-2000; Revision: July-2002: Re-released for DXP Platform.; Publisher: Altium Limited; Supplier 1: Digi-Key; Supplier Part Number 1: 311-100KJRCT-ND
simulation model RESISTOR (Resistor)
signal-integrity model Res
footprint RESC1005X40N (Chip Resistor, Body 1.0x0.5mm, EIA 0402, IPC Medium Density)
pins: 1, 2
1 alternate drawing of the same symbol

## Res-0402-100R
designator R?  value 100R  (hidden comment: Res-0402-100R)
Resistor; Note: Approved sub OK; Published: 8-Jun-2000; Revision: July-2002: Re-released for DXP Platform.; Publisher: Altium Limited; Supplier 1: Digi-Key; Supplier Part Number 1: 311-100JRCT-ND
simulation model RESISTOR (Resistor)
signal-integrity model Res
footprint RESC1005X40N (Chip Resistor, Body 1.0x0.5mm, EIA 0402, IPC Medium Density)
pins: 1, 2
1 alternate drawing of the same symbol

## Res-0402-120R
designator R?  value 120R  (hidden comment: Res-0402-120R)
Resistor; Note: Approved sub OK; Published: 8-Jun-2000; Revision: July-2002: Re-released for DXP Platform.; Publisher: Altium Limited; Supplier 1: Digi-Key; Supplier Part Number 1: 311-120JRCT-ND
simulation model RESISTOR (Resistor)
signal-integrity model Res
footprint RESC1005X40N (Chip Resistor, Body 1.0x0.5mm, EIA 0402, IPC Medium Density)
pins: 1, 2
1 alternate drawing of the same symbol

## Res-0402-140K
designator R?  value 140K  (hidden comment: Res-0402-140K)
Resistor; Note: Approved sub OK; Published: 8-Jun-2000; Revision: July-2002: Re-released for DXP Platform.; Publisher: Altium Limited; Supplier 1: Digi-Key; Supplier Part Number 1: YAG2978CT-ND
simulation model RESISTOR (Resistor)
signal-integrity model Res
footprint RESC1005X40N (Chip Resistor, Body 1.0x0.5mm, EIA 0402, IPC Medium Density)
pins: 1, 2
1 alternate drawing of the same symbol

## Res-0402-EMPTY
designator R?  value EMPTY  (hidden comment: Res-0402-EMPTY)  (no BOM)
Resistor; Note: Approved sub OK; Published: 8-Jun-2000; Revision: July-2002: Re-released for DXP Platform.; Publisher: Altium Limited
simulation model RESISTOR (Resistor)
signal-integrity model Res
footprint RESC1005X40N (Chip Resistor, Body 1.0x0.5mm, EIA 0402, IPC Medium Density)
pins: 1, 2
1 alternate drawing of the same symbol

## Res-0603-0R
designator R?  value 0R  (hidden comment: Res-0603-0R)
Resistor; Note: Approved sub OK; Published: 8-Jun-2000; Revision: July-2002: Re-released for DXP Platform.; Publisher: Altium Limited; Supplier 1: Digi-Key; Supplier Part Number 1: 311-0.0GRCT-ND
simulation model RESISTOR (Resistor)
signal-integrity model Res
footprint Res 2012-0805
footprint Res 3216-1206
footprint Res 3225-1210
footprint Res 5025-2010
footprint RES 1608-0603
pins: 1, 2
1 alternate drawing of the same symbol

## Res-0603-1K
designator R?  value 1K  Supplier Part Number 1: 311-1.00KHRCT-ND  (hidden comment: Res-0603-1K)
Resistor; Note: Approved sub OK; Published: 8-Jun-2000; Revision: July-2002: Re-released for DXP Platform.; Publisher: Altium Limited; Supplier 1: Digi-Key
simulation model RESISTOR (Resistor)
signal-integrity model Res
footprint Res 2012-0805
footprint Res 3216-1206
footprint Res 3225-1210
footprint Res 5025-2010
footprint RES 1608-0603
pins: 1, 2
1 alternate drawing of the same symbol

## Res-0603-1M
designator R?  value 1M  (hidden comment: Res-0603-1M)
Resistor; Note: Approved sub OK; Published: 8-Jun-2000; Revision: July-2002: Re-released for DXP Platform.; Publisher: Altium Limited; Supplier 1: Digi-Key; Supplier Part Number 1: 311-1.00MHRDKR-ND
simulation model RESISTOR (Resistor)
signal-integrity model Res
footprint Res 2012-0805
footprint Res 3216-1206
footprint Res 3225-1210
footprint Res 5025-2010
footprint RES 1608-0603
pins: 1, 2
1 alternate drawing of the same symbol

## Res-0603-2K2
designator R?  value 2.2K  Supplier Part Number 1: 311-2.2KGRCT-ND  (hidden comment: Res-0603-2K2)
Resistor; Note: Approved sub OK; Published: 8-Jun-2000; Revision: July-2002: Re-released for DXP Platform.; Publisher: Altium Limited; Supplier 1: Digi-Key
simulation model RESISTOR (Resistor)
signal-integrity model Res
footprint Res 2012-0805
footprint Res 3216-1206
footprint Res 3225-1210
footprint Res 5025-2010
footprint RES 1608-0603
pins: 1, 2
1 alternate drawing of the same symbol

## Res-0603-4K7
designator R?  value 4.7K  (hidden comment: Res-0603-4K7)
Resistor; Note: Approved sub OK; Published: 8-Jun-2000; Revision: July-2002: Re-released for DXP Platform.; Publisher: Altium Limited; Supplier 1: Digi-Key; Supplier Part Number 1: 311-4.7KGRCT-ND
simulation model RESISTOR (Resistor)
signal-integrity model Res
footprint Res 2012-0805
footprint Res 3216-1206
footprint Res 3225-1210
footprint Res 5025-2010
footprint RES 1608-0603
pins: 1, 2
1 alternate drawing of the same symbol

## Res-0603-8K66
designator R?  value 8.66K  (hidden comment: Res-0603-8K66)
Resistor; Note: Approved sub OK; Published: 8-Jun-2000; Revision: July-2002: Re-released for DXP Platform.; Publisher: Altium Limited; Supplier 1: Digi-Key; Supplier Part Number 1: 311-8.66KHRCT-ND
simulation model RESISTOR (Resistor)
signal-integrity model Res
footprint Res 2012-0805
footprint Res 3216-1206
footprint Res 3225-1210
footprint Res 5025-2010
footprint RES 1608-0603
pins: 1, 2
1 alternate drawing of the same symbol

## Res-0603-9.1K
designator R?  value 9.1K  (hidden comment: Res-0603-9.1K)
Resistor; Note: Approved sub OK; Published: 8-Jun-2000; Revision: July-2002: Re-released for DXP Platform.; Publisher: Altium Limited; Supplier 1: Digi-Key; Supplier Part Number 1: 311-9.10KHRCT-ND
simulation model RESISTOR (Resistor)
signal-integrity model Res
footprint Res 2012-0805
footprint Res 3216-1206
footprint Res 3225-1210
footprint Res 5025-2010
footprint RES 1608-0603
pins: 1, 2
1 alternate drawing of the same symbol

## Res-0603-9.53K
designator R?  value 9.53K  (hidden comment: Res-0603-9.53K)
Resistor; Note: Approved sub OK; Published: 8-Jun-2000; Revision: July-2002: Re-released for DXP Platform.; Publisher: Altium Limited; Supplier 1: Digi-Key; Supplier Part Number 1: 311-9.53KHRCT-ND
simulation model RESISTOR (Resistor)
signal-integrity model Res
footprint Res 2012-0805
footprint Res 3216-1206
footprint Res 3225-1210
footprint Res 5025-2010
footprint RES 1608-0603
pins: 1, 2
1 alternate drawing of the same symbol

## Res-0603-10K
designator R?  value 10K  (hidden comment: Res-0603-10K)
Resistor; Note: Approved sub OK; Published: 8-Jun-2000; Revision: July-2002: Re-released for DXP Platform.; Publisher: Altium Limited; Supplier 1: Digi-Key; Supplier Part Number 1: 311-10.0KHRCT-ND
simulation model RESISTOR (Resistor)
signal-integrity model Res
footprint Res 2012-0805
footprint Res 3216-1206
footprint Res 3225-1210
footprint Res 5025-2010
footprint RES 1608-0603
pins: 1, 2
1 alternate drawing of the same symbol

## Res-0603-10R
designator R?  value 10R  (hidden comment: Res-0603-10R)
Resistor; Note: Approved sub OK; Published: 8-Jun-2000; Revision: July-2002: Re-released for DXP Platform.; Publisher: Altium Limited; Supplier 1: Digi-Key; Supplier Part Number 1: 311-10.0HRCT-ND
simulation model RESISTOR (Resistor)
signal-integrity model Res
footprint Res 2012-0805
footprint Res 3216-1206
footprint Res 3225-1210
footprint Res 5025-2010
footprint RES 1608-0603
pins: 1, 2
1 alternate drawing of the same symbol

## Res-0603-11K3
designator R?  value 11.3K  (hidden comment: Res-0603-11K3)
Resistor; Note: Approved sub OK; Published: 8-Jun-2000; Revision: July-2002: Re-released for DXP Platform.; Publisher: Altium Limited; Supplier 1: Digi-Key; Supplier Part Number 1: 311-11.3KHRCT-ND
simulation model RESISTOR (Resistor)
signal-integrity model Res
footprint Res 2012-0805
footprint Res 3216-1206
footprint Res 3225-1210
footprint Res 5025-2010
footprint RES 1608-0603
pins: 1, 2
1 alternate drawing of the same symbol

## Res-0603-22R
designator R?  value 22R  (hidden comment: Res-0603-22R)
Resistor; Note: Approved sub OK; Published: 8-Jun-2000; Revision: July-2002: Re-released for DXP Platform.; Publisher: Altium Limited; Supplier 1: Digi-Key; Supplier Part Number 1: 311-22.0HRCT-ND
simulation model RESISTOR (Resistor)
signal-integrity model Res
footprint Res 2012-0805
footprint Res 3216-1206
footprint Res 3225-1210
footprint Res 5025-2010
footprint RES 1608-0603
footprint RESC1005X40N (Chip Resistor, Body 1.0x0.5mm, EIA 0402, IPC Medium Density)
pins: 1, 2
1 alternate drawing of the same symbol

## Res-0603-30K
designator R?  value 30K  (hidden comment: Res-0603-30K)
Resistor; Note: Approved sub OK; Published: 8-Jun-2000; Revision: July-2002: Re-released for DXP Platform.; Publisher: Altium Limited; Supplier 1: Digi-Key; Supplier Part Number 1: 311-30.0KHRCT-ND
simulation model RESISTOR (Resistor)
signal-integrity model Res
footprint Res 2012-0805
footprint Res 3216-1206
footprint Res 3225-1210
footprint Res 5025-2010
footprint RES 1608-0603
pins: 1, 2
1 alternate drawing of the same symbol

## Res-0603-47K
designator R?  value 47K  (hidden comment: Res-0603-47K)
Resistor; Note: Approved sub OK; Published: 8-Jun-2000; Revision: July-2002: Re-released for DXP Platform.; Publisher: Altium Limited; Supplier 1: Digi-Key; Supplier Part Number 1: 311-47.0KHRCT-ND
simulation model RESISTOR (Resistor)
signal-integrity model Res
footprint Res 2012-0805
footprint Res 3216-1206
footprint Res 3225-1210
footprint Res 5025-2010
footprint RES 1608-0603
pins: 1, 2
1 alternate drawing of the same symbol

## Res-0603-49.9K
designator R?  value 49.9K  (hidden comment: Res-0603-49.9K)
Resistor; Note: Approved sub OK; Published: 8-Jun-2000; Revision: July-2002: Re-released for DXP Platform.; Publisher: Altium Limited; Supplier 1: Digi-Key; Supplier Part Number 1: 311-49.9KHRCT-ND
simulation model RESISTOR (Resistor)
signal-integrity model Res
footprint Res 2012-0805
footprint Res 3216-1206
footprint Res 3225-1210
footprint Res 5025-2010
footprint RES 1608-0603
pins: 1, 2
1 alternate drawing of the same symbol

## Res-0603-53.6K
designator R?  value 53.6K  Supplier Part Number 1: 311-53.6KHRCT-ND  (hidden comment: Res-0603-53.6K)
Resistor; Note: Approved sub OK; Published: 8-Jun-2000; Revision: July-2002: Re-released for DXP Platform.; Publisher: Altium Limited; Supplier 1: Digi-Key
simulation model RESISTOR (Resistor)
signal-integrity model Res
footprint Res 2012-0805
footprint Res 3216-1206
footprint Res 3225-1210
footprint Res 5025-2010
footprint RES 1608-0603
pins: 1, 2
1 alternate drawing of the same symbol

## Res-0603-54.9K
designator R?  value 54.9K  (hidden comment: Res-0603-54.9K)
Resistor; Note: Approved sub OK; Published: 8-Jun-2000; Revision: July-2002: Re-released for DXP Platform.; Publisher: Altium Limited; Supplier 1: Digi-Key; Supplier Part Number 1: 311-54.9KHRCT-ND
simulation model RESISTOR (Resistor)
signal-integrity model Res
footprint Res 2012-0805
footprint Res 3216-1206
footprint Res 3225-1210
footprint Res 5025-2010
footprint RES 1608-0603
pins: 1, 2
1 alternate drawing of the same symbol

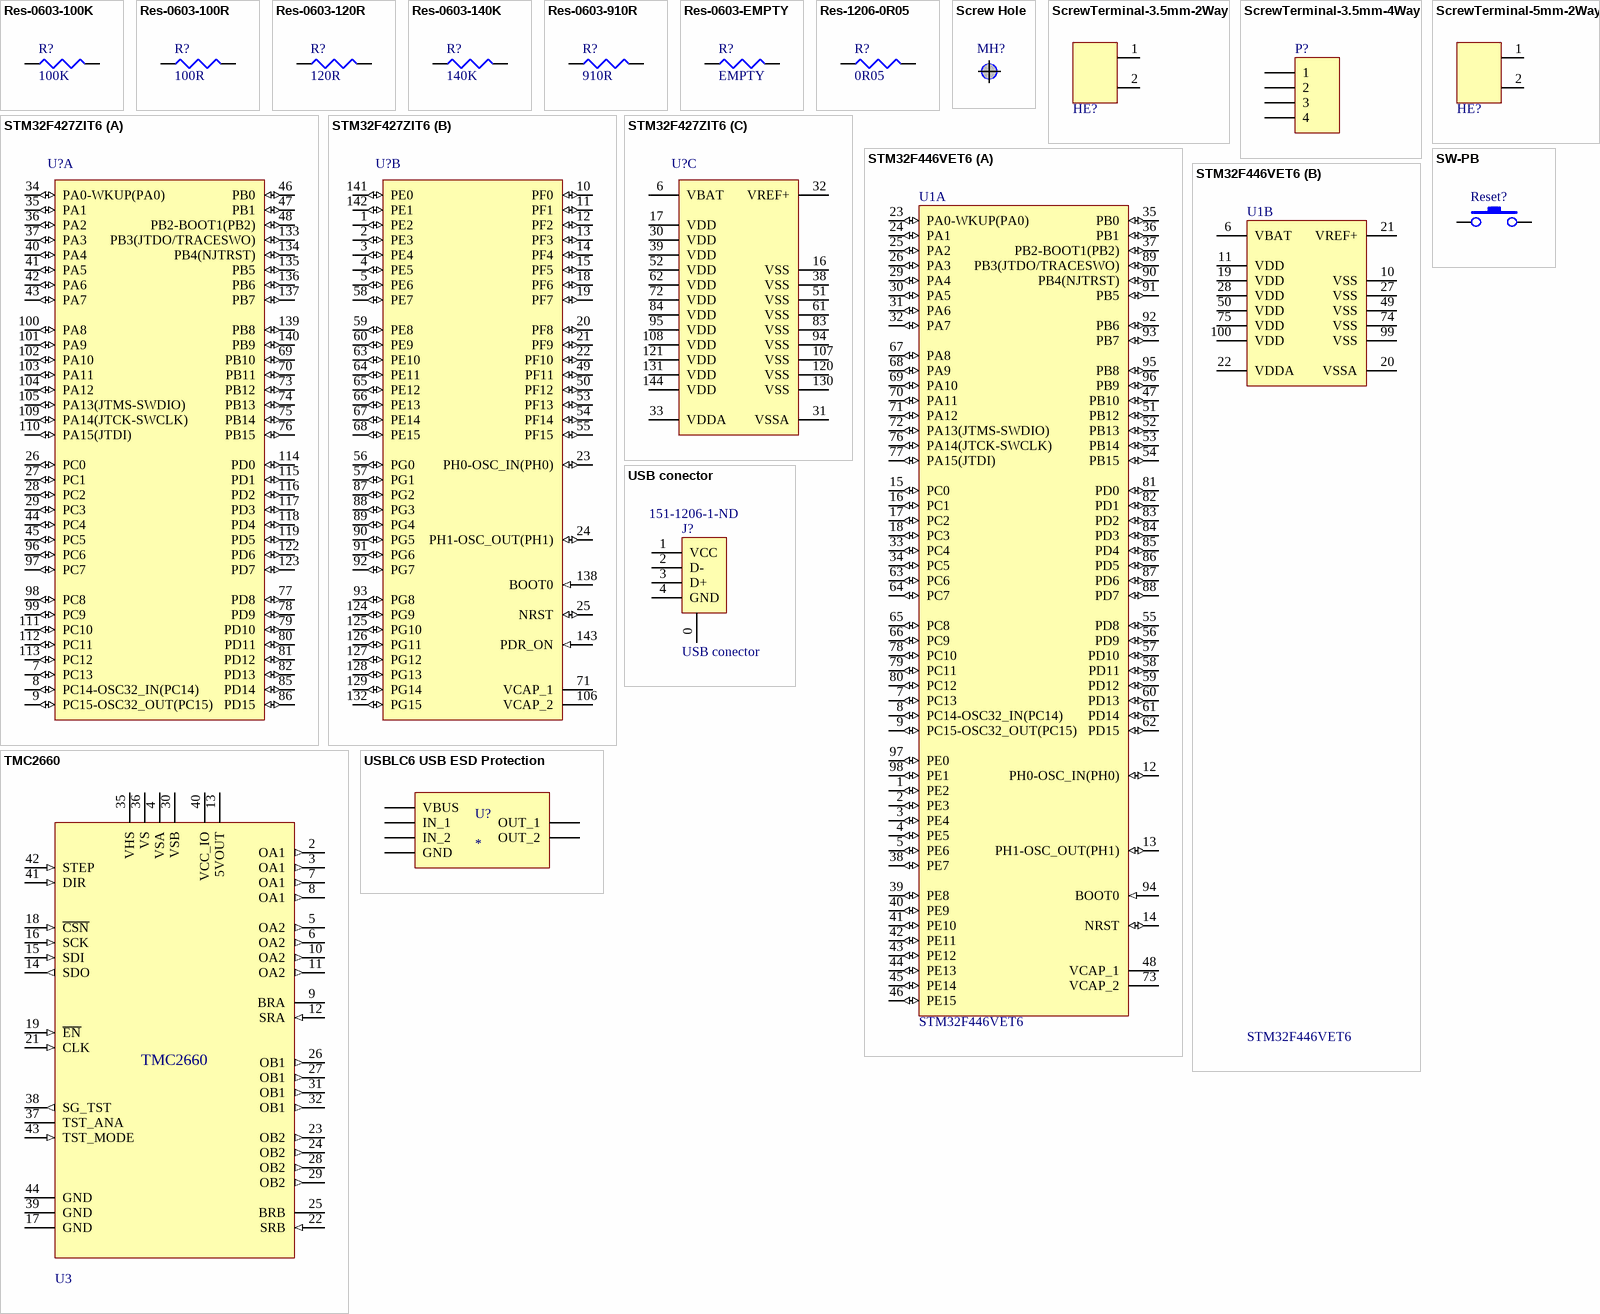
[diagram p3: symbols Res-0603-100K to USBLC6 USB ESD Protection]

## Res-0603-100K
designator R?  value 100K  (hidden comment: Res-0603-100K)
Resistor; Note: Approved sub OK; Published: 8-Jun-2000; Revision: July-2002: Re-released for DXP Platform.; Publisher: Altium Limited; Supplier 1: Digi-Key; Supplier Part Number 1: 311-100KHRCT-ND
simulation model RESISTOR (Resistor)
signal-integrity model Res
footprint Res 2012-0805
footprint Res 3216-1206
footprint Res 3225-1210
footprint Res 5025-2010
footprint RES 1608-0603
pins: 1, 2
1 alternate drawing of the same symbol

## Res-0603-100R
designator R?  value 100R  (hidden comment: Res-0603-100R)
Resistor; Note: Approved sub OK; Published: 8-Jun-2000; Revision: July-2002: Re-released for DXP Platform.; Publisher: Altium Limited; Supplier 1: Digi-Key; Supplier Part Number 1: 311-100HRCT-ND
simulation model RESISTOR (Resistor)
signal-integrity model Res
footprint Res 2012-0805
footprint Res 3216-1206
footprint Res 3225-1210
footprint Res 5025-2010
footprint RES 1608-0603
pins: 1, 2
1 alternate drawing of the same symbol

## Res-0603-120R
designator R?  value 120R  (hidden comment: Res-0603-120R)
Resistor; Note: Approved sub OK; Published: 8-Jun-2000; Revision: July-2002: Re-released for DXP Platform.; Publisher: Altium Limited; Supplier 1: Digi-Key; Supplier Part Number 1: 311-120HRCT-ND
simulation model RESISTOR (Resistor)
signal-integrity model Res
footprint Res 2012-0805
footprint Res 3216-1206
footprint Res 3225-1210
footprint Res 5025-2010
footprint RES 1608-0603
pins: 1, 2
1 alternate drawing of the same symbol